# Altium schematic symbol library mosfet_3s_4d.SchLib: 1 symbol
Pins are listed as number, name and electrical type; pins without a type are passive.

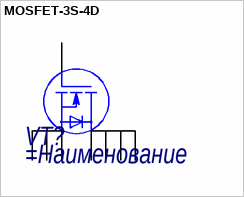
[diagram p0: symbol MOSFET-3S-4D]

## MOSFET-3S-4D
designator VT?
=Описание
pins: D, D, D, D, G, S, S   , S